# Altium footprint library TSSOP_50P_N.PcbLib: 21 footprints (part 1 of 2)
Each footprint in its own frame and in the unit in brackets; x right, y up, seen from the top. Pads: shape width x height; smd on the part's side, far side on the other; paste and mask are expansions set on the pad; w line width, h text height; cw(c..) or ccw(c..) is an arc to the next point about the centre after c.
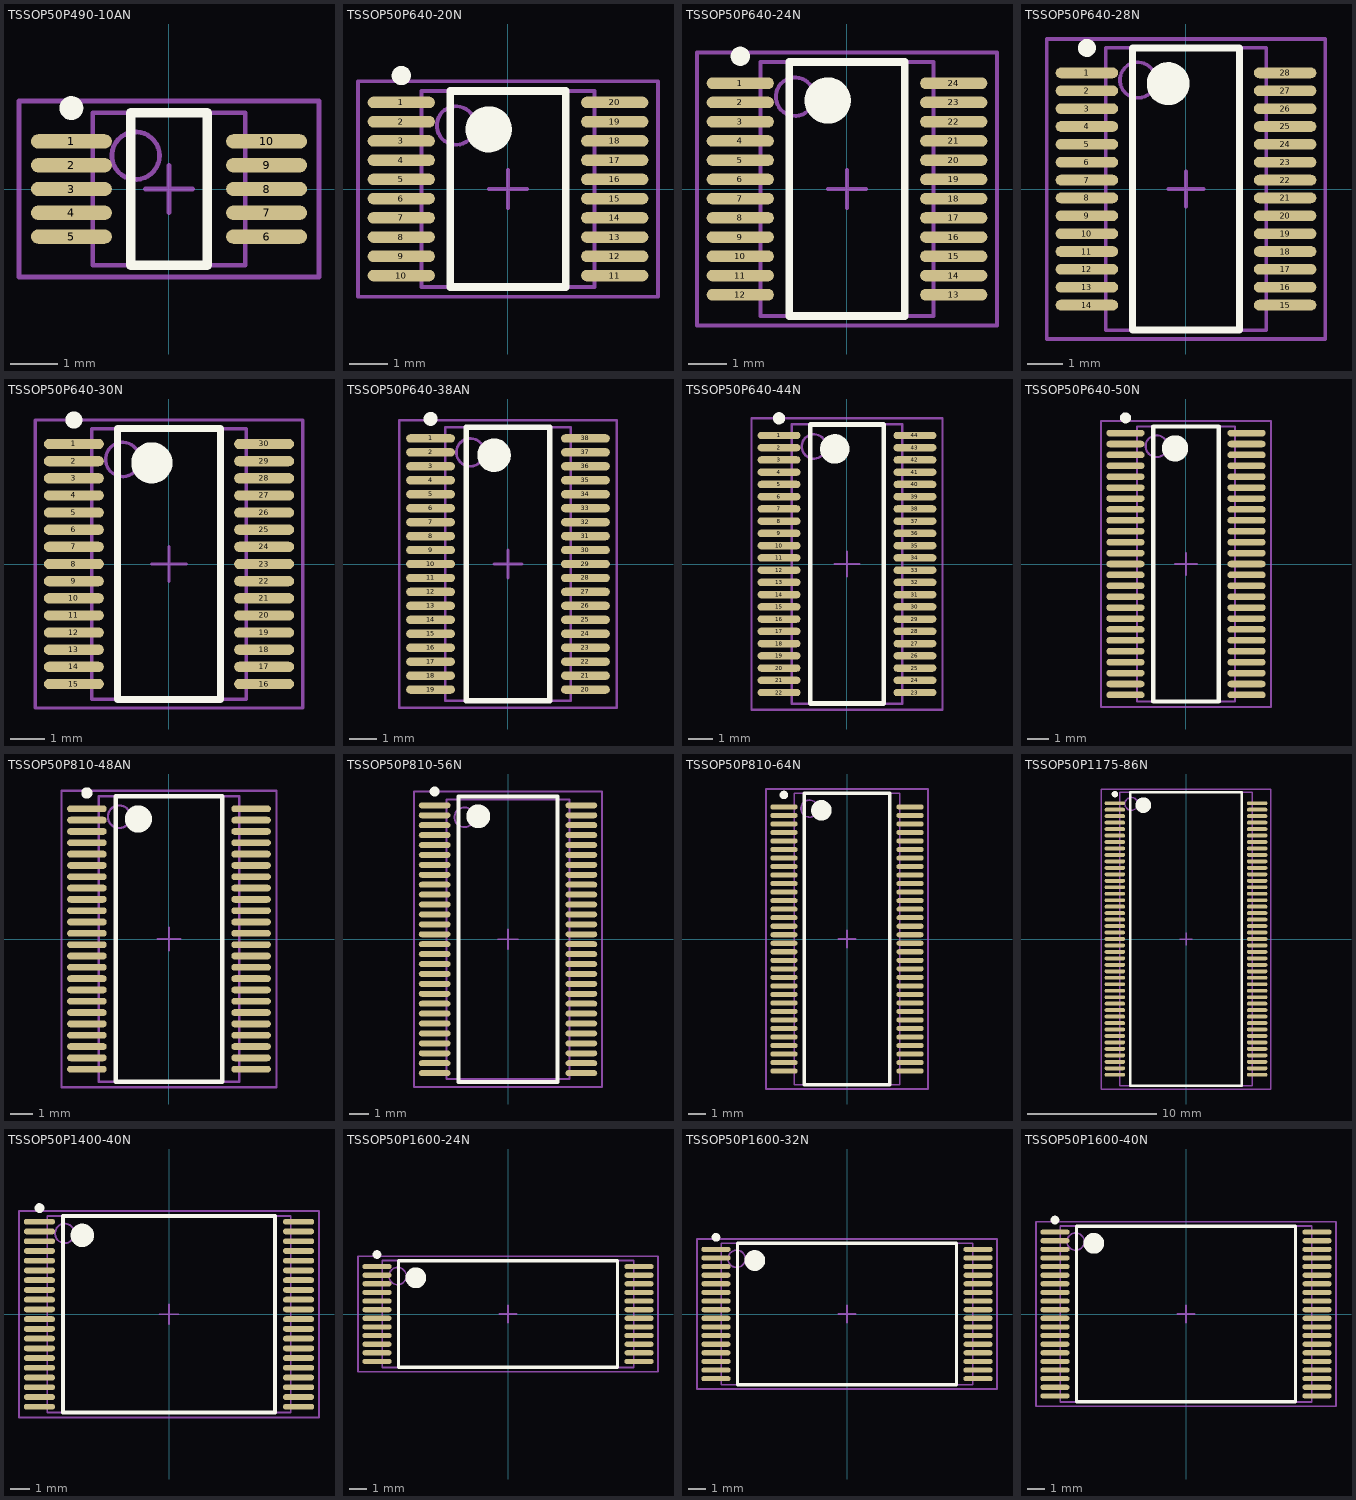
[diagram p0: the footprints below, top view; thin cyan lines are the x and y axes]

## TSSOP50P490-10AN [mm] "TSSOP, 10-Leads, Body 3x3mm, Pitch 0.5mm, IPC Medium Density"
height 1.1
pads (10):
  oval 1.7x0.3 smd: 1(-2.05,1) 2(-2.05,0.5) 3(-2.05,0) 4(-2.05,-0.5) 5(-2.05,-1) 6(2.05,-1) 7(2.05,-0.5) 8(2.05,0) 9(2.05,0.5) 10(2.05,1)
Top Overlay:
  circle w0.25: c-2.05,1.7 r0.125
  lines w0.2: -0.8,-1.6 -0.8,1.6 0.8,1.6 0.8,-1.6 -0.8,-1.6
Mechanical 13:
  circle w0.1: c-0.7,0.7 r0.5
  lines w0.1: -1.6,-1.6 -1.6,1.6 1.6,1.6 1.6,-1.6 -1.6,-1.6
Mechanical 15:
  lines w0.1: -0.5,0 0.5,0 ; 0,-0.5 0,0.5 ; -3.15,-1.85 -3.15,1.85 3.15,1.85 3.15,-1.85 -3.15,-1.85
3D body: height 1.1, standoff 0, extent -1.6,-1.6 1.6,1.6

## TSSOP50P640-20N [mm] "TSSOP, 20-Leads, Body 5x4.4mm, Pitch 0.5mm, IPC Medium Density"
height 1.2
pads (20):
  oval 1.75x0.3 smd: 1(-2.775,2.25) 2(-2.775,1.75) 3(-2.775,1.25) 4(-2.775,0.75) 5(-2.775,0.25) 6(-2.775,-0.25) 7(-2.775,-0.75) 8(-2.775,-1.25) 9(-2.775,-1.75) 10(-2.775,-2.25) 11(2.775,-2.25) 12(2.775,-1.75) 13(2.775,-1.25) 14(2.775,-0.75) 15(2.775,-0.25) 16(2.775,0.25) 17(2.775,0.75) 18(2.775,1.25) 19(2.775,1.75) 20(2.775,2.25)
Top Overlay:
  circle w0.25: c-2.775,2.95 r0.125
  circle w0.6: c-0.5,1.55 r0.3
  lines w0.2: -1.5,-2.55 -1.5,2.55 1.5,2.55 1.5,-2.55 -1.5,-2.55
Mechanical 13:
  circle w0.1: c-1.35,1.65 r0.5
  lines w0.1: -2.25,-2.55 -2.25,2.55 2.25,2.55 2.25,-2.55 -2.25,-2.55
Mechanical 15:
  lines w0.1: -0.5,0 0.5,0 ; 0,-0.5 0,0.5 ; -3.9,-2.8 -3.9,2.8 3.9,2.8 3.9,-2.8 -3.9,-2.8
3D body: height 1.2, standoff 0, extent -2.25,-2.55 2.25,2.55

## TSSOP50P640-24N [mm] "TSSOP, 24-Leads, Body 6.5x4.4mm, Pitch 0.5mm, IPC Medium Density"
height 1.2
pads (24):
  oval 1.75x0.3 smd: 1(-2.775,2.75) 2(-2.775,2.25) 3(-2.775,1.75) 4(-2.775,1.25) 5(-2.775,0.75) 6(-2.775,0.25) 7(-2.775,-0.25) 8(-2.775,-0.75) 9(-2.775,-1.25) 10(-2.775,-1.75) 11(-2.775,-2.25) 12(-2.775,-2.75) 13(2.775,-2.75) 14(2.775,-2.25) 15(2.775,-1.75) 16(2.775,-1.25) 17(2.775,-0.75) 18(2.775,-0.25) 19(2.775,0.25) 20(2.775,0.75) 21(2.775,1.25) 22(2.775,1.75) 23(2.775,2.25) 24(2.775,2.75)
Top Overlay:
  circle w0.25: c-2.775,3.45 r0.125
  circle w0.6: c-0.5,2.3 r0.3
  lines w0.2: -1.5,-3.3 -1.5,3.3 1.5,3.3 1.5,-3.3 -1.5,-3.3
Mechanical 13:
  circle w0.1: c-1.35,2.4 r0.5
  lines w0.1: -2.25,-3.3 -2.25,3.3 2.25,3.3 2.25,-3.3 -2.25,-3.3
Mechanical 15:
  lines w0.1: -0.5,0 0.5,0 ; 0,-0.5 0,0.5 ; -3.9,-3.55 -3.9,3.55 3.9,3.55 3.9,-3.55 -3.9,-3.55
3D body: height 1.2, standoff 0, extent -2.25,-3.3 2.25,3.3

## TSSOP50P640-28N [mm] "TSSOP, 28-Leads, Body 7.8x4.4mm, Pitch 0.5mm, IPC Medium Density"
height 1.2
pads (28):
  oval 1.75x0.3 smd: 1(-2.775,3.25) 2(-2.775,2.75) 3(-2.775,2.25) 4(-2.775,1.75) 5(-2.775,1.25) 6(-2.775,0.75) 7(-2.775,0.25) 8(-2.775,-0.25) 9(-2.775,-0.75) 10(-2.775,-1.25) 11(-2.775,-1.75) 12(-2.775,-2.25) 13(-2.775,-2.75) 14(-2.775,-3.25) 15(2.775,-3.25) 16(2.775,-2.75) 17(2.775,-2.25) 18(2.775,-1.75) 19(2.775,-1.25) 20(2.775,-0.75) 21(2.775,-0.25) 22(2.775,0.25) 23(2.775,0.75) 24(2.775,1.25) 25(2.775,1.75) 26(2.775,2.25) 27(2.775,2.75) 28(2.775,3.25)
Top Overlay:
  circle w0.25: c-2.775,3.95 r0.125
  circle w0.6: c-0.5,2.95 r0.3
  lines w0.2: -1.5,-3.95 -1.5,3.95 1.5,3.95 1.5,-3.95 -1.5,-3.95
Mechanical 13:
  circle w0.1: c-1.35,3.05 r0.5
  lines w0.1: -2.25,-3.95 -2.25,3.95 2.25,3.95 2.25,-3.95 -2.25,-3.95
Mechanical 15:
  lines w0.1: -0.5,0 0.5,0 ; 0,-0.5 0,0.5 ; -3.9,-4.2 -3.9,4.2 3.9,4.2 3.9,-4.2 -3.9,-4.2
3D body: height 1.2, standoff 0, extent -2.25,-3.95 2.25,3.95

## TSSOP50P640-30N [mm] "TSSOP, 30-Leads, Body 7.8x4.4mm, Pitch 0.5mm, IPC Medium Density"
height 1.2
pads (30):
  oval 1.75x0.3 smd: 1(-2.775,3.5) 2(-2.775,3) 3(-2.775,2.5) 4(-2.775,2) 5(-2.775,1.5) 6(-2.775,1) 7(-2.775,0.5) 8(-2.775,0) 9(-2.775,-0.5) 10(-2.775,-1) 11(-2.775,-1.5) 12(-2.775,-2) 13(-2.775,-2.5) 14(-2.775,-3) 15(-2.775,-3.5) 16(2.775,-3.5) 17(2.775,-3) 18(2.775,-2.5) 19(2.775,-2) 20(2.775,-1.5) 21(2.775,-1) 22(2.775,-0.5) 23(2.775,0) 24(2.775,0.5) 25(2.775,1) 26(2.775,1.5) 27(2.775,2) 28(2.775,2.5) 29(2.775,3) 30(2.775,3.5)
Top Overlay:
  circle w0.25: c-2.775,4.2 r0.125
  circle w0.6: c-0.5,2.95 r0.3
  lines w0.2: -1.5,-3.95 -1.5,3.95 1.5,3.95 1.5,-3.95 -1.5,-3.95
Mechanical 13:
  circle w0.1: c-1.35,3.05 r0.5
  lines w0.1: -2.25,-3.95 -2.25,3.95 2.25,3.95 2.25,-3.95 -2.25,-3.95
Mechanical 15:
  lines w0.1: -0.5,0 0.5,0 ; 0,-0.5 0,0.5 ; -3.9,-4.2 -3.9,4.2 3.9,4.2 3.9,-4.2 -3.9,-4.2
3D body: height 1.2, standoff 0, extent -2.25,-3.95 2.25,3.95

## TSSOP50P640-38AN [mm] "TSSOP, 38-Leads, Body 9.7x4.4mm, Pitch 0.5mm, IPC Medium Density"
height 1.2
pads (38):
  oval 1.75x0.3 smd: 1(-2.775,4.5) 2(-2.775,4) 3(-2.775,3.5) 4(-2.775,3) 5(-2.775,2.5) 6(-2.775,2) 7(-2.775,1.5) 8(-2.775,1) 9(-2.775,0.5) 10(-2.775,0) 11(-2.775,-0.5) 12(-2.775,-1) 13(-2.775,-1.5) 14(-2.775,-2) 15(-2.775,-2.5) 16(-2.775,-3) 17(-2.775,-3.5) 18(-2.775,-4) 19(-2.775,-4.5) 20(2.775,-4.5) 21(2.775,-4) 22(2.775,-3.5) 23(2.775,-3) 24(2.775,-2.5) 25(2.775,-2) 26(2.775,-1.5) 27(2.775,-1) 28(2.775,-0.5) 29(2.775,0) 30(2.775,0.5) 31(2.775,1) 32(2.775,1.5) 33(2.775,2) 34(2.775,2.5) 35(2.775,3) 36(2.775,3.5) 37(2.775,4) 38(2.775,4.5)
Top Overlay:
  circle w0.25: c-2.775,5.2 r0.125
  circle w0.6: c-0.5,3.9 r0.3
  lines w0.2: -1.5,-4.9 -1.5,4.9 1.5,4.9 1.5,-4.9 -1.5,-4.9
Mechanical 13:
  circle w0.1: c-1.35,4 r0.5
  lines w0.1: -2.25,-4.9 -2.25,4.9 2.25,4.9 2.25,-4.9 -2.25,-4.9
Mechanical 15:
  lines w0.1: -0.5,0 0.5,0 ; 0,-0.5 0,0.5 ; -3.9,-5.15 -3.9,5.15 3.9,5.15 3.9,-5.15 -3.9,-5.15
3D body: height 1.2, standoff 0, extent -2.25,-4.9 2.25,4.9

## TSSOP50P640-44N [mm] "TSSOP, 44-Leads, Body 11x4.4mm, Pitch 0.5mm, IPC Medium Density"
height 1.2
pads (44):
  oval 1.75x0.3 smd: 1(-2.775,5.25) 2(-2.775,4.75) 3(-2.775,4.25) 4(-2.775,3.75) 5(-2.775,3.25) 6(-2.775,2.75) 7(-2.775,2.25) 8(-2.775,1.75) 9(-2.775,1.25) 10(-2.775,0.75) 11(-2.775,0.25) 12(-2.775,-0.25) 13(-2.775,-0.75) 14(-2.775,-1.25) 15(-2.775,-1.75) 16(-2.775,-2.25) 17(-2.775,-2.75) 18(-2.775,-3.25) 19(-2.775,-3.75) 20(-2.775,-4.25) 21(-2.775,-4.75) 22(-2.775,-5.25) 23(2.775,-5.25) 24(2.775,-4.75) 25(2.775,-4.25) 26(2.775,-3.75) 27(2.775,-3.25) 28(2.775,-2.75) 29(2.775,-2.25) 30(2.775,-1.75) 31(2.775,-1.25) 32(2.775,-0.75) 33(2.775,-0.25) 34(2.775,0.25) 35(2.775,0.75) 36(2.775,1.25) 37(2.775,1.75) 38(2.775,2.25) 39(2.775,2.75) 40(2.775,3.25) 41(2.775,3.75) 42(2.775,4.25) 43(2.775,4.75) 44(2.775,5.25)
Top Overlay:
  circle w0.25: c-2.775,5.95 r0.125
  circle w0.6: c-0.5,4.7 r0.3
  lines w0.2: -1.5,-5.7 -1.5,5.7 1.5,5.7 1.5,-5.7 -1.5,-5.7
Mechanical 13:
  circle w0.1: c-1.35,4.8 r0.5
  lines w0.1: -2.25,-5.7 -2.25,5.7 2.25,5.7 2.25,-5.7 -2.25,-5.7
Mechanical 15:
  lines w0.1: -0.5,0 0.5,0 ; 0,-0.5 0,0.5 ; -3.9,-5.95 -3.9,5.95 3.9,5.95 3.9,-5.95 -3.9,-5.95
3D body: height 1.2, standoff 0, extent -2.25,-5.7 2.25,5.7

## TSSOP50P640-50N [mm] "TSSOP, 50-Leads, Body 12.5x4.4mm, Pitch 0.5mm, IPC Medium Density"
height 1.2
pads (50):
  oval 1.75x0.3 smd: 1(-2.775,6) 2(-2.775,5.5) 3(-2.775,5) 4(-2.775,4.5) 5(-2.775,4) 6(-2.775,3.5) 7(-2.775,3) 8(-2.775,2.5) 9(-2.775,2) 10(-2.775,1.5) 11(-2.775,1) 12(-2.775,0.5) 13(-2.775,0) 14(-2.775,-0.5) 15(-2.775,-1) 16(-2.775,-1.5) 17(-2.775,-2) 18(-2.775,-2.5) 19(-2.775,-3) 20(-2.775,-3.5) 21(-2.775,-4) 22(-2.775,-4.5) 23(-2.775,-5) 24(-2.775,-5.5) 25(-2.775,-6) 26(2.775,-6) 27(2.775,-5.5) 28(2.775,-5) 29(2.775,-4.5) 30(2.775,-4) 31(2.775,-3.5) 32(2.775,-3) 33(2.775,-2.5) 34(2.775,-2) 35(2.775,-1.5) 36(2.775,-1) 37(2.775,-0.5) 38(2.775,0) 39(2.775,0.5) 40(2.775,1) 41(2.775,1.5) 42(2.775,2) 43(2.775,2.5) 44(2.775,3) 45(2.775,3.5) 46(2.775,4) 47(2.775,4.5) 48(2.775,5) 49(2.775,5.5) 50(2.775,6)
Top Overlay:
  circle w0.25: c-2.775,6.7 r0.125
  circle w0.6: c-0.5,5.3 r0.3
  lines w0.2: -1.5,-6.3 -1.5,6.3 1.5,6.3 1.5,-6.3 -1.5,-6.3
Mechanical 13:
  circle w0.1: c-1.35,5.4 r0.5
  lines w0.1: -2.25,-6.3 -2.25,6.3 2.25,6.3 2.25,-6.3 -2.25,-6.3
Mechanical 15:
  lines w0.1: -0.5,0 0.5,0 ; 0,-0.5 0,0.5 ; -3.9,-6.55 -3.9,6.55 3.9,6.55 3.9,-6.55 -3.9,-6.55
3D body: height 1.2, standoff 0, extent -2.25,-6.3 2.25,6.3

## TSSOP50P810-48AN [mm] "TSSOP, 48-Leads, Body 12.5x6.1mm, Pitch 0.5mm, IPC Medium Density"
height 1.2
pads (48):
  oval 1.75x0.3 smd: 1(-3.625,5.75) 2(-3.625,5.25) 3(-3.625,4.75) 4(-3.625,4.25) 5(-3.625,3.75) 6(-3.625,3.25) 7(-3.625,2.75) 8(-3.625,2.25) 9(-3.625,1.75) 10(-3.625,1.25) 11(-3.625,0.75) 12(-3.625,0.25) 13(-3.625,-0.25) 14(-3.625,-0.75) 15(-3.625,-1.25) 16(-3.625,-1.75) 17(-3.625,-2.25) 18(-3.625,-2.75) 19(-3.625,-3.25) 20(-3.625,-3.75) 21(-3.625,-4.25) 22(-3.625,-4.75) 23(-3.625,-5.25) 24(-3.625,-5.75) 25(3.625,-5.75) 26(3.625,-5.25) 27(3.625,-4.75) 28(3.625,-4.25) 29(3.625,-3.75) 30(3.625,-3.25) 31(3.625,-2.75) 32(3.625,-2.25) 33(3.625,-1.75) 34(3.625,-1.25) 35(3.625,-0.75) 36(3.625,-0.25) 37(3.625,0.25) 38(3.625,0.75) 39(3.625,1.25) 40(3.625,1.75) 41(3.625,2.25) 42(3.625,2.75) 43(3.625,3.25) 44(3.625,3.75) 45(3.625,4.25) 46(3.625,4.75) 47(3.625,5.25) 48(3.625,5.75)
Top Overlay:
  circle w0.25: c-3.625,6.45 r0.125
  circle w0.6: c-1.35,5.3 r0.3
  lines w0.2: -2.35,-6.3 -2.35,6.3 2.35,6.3 2.35,-6.3 -2.35,-6.3
Mechanical 13:
  circle w0.1: c-2.2,5.4 r0.5
  lines w0.1: -3.1,-6.3 -3.1,6.3 3.1,6.3 3.1,-6.3 -3.1,-6.3
Mechanical 15:
  lines w0.1: -0.5,0 0.5,0 ; 0,-0.5 0,0.5 ; -4.75,-6.55 -4.75,6.55 4.75,6.55 4.75,-6.55 -4.75,-6.55
3D body: height 1.2, standoff 0, extent -3.1,-6.3 3.1,6.3

## TSSOP50P810-56N [mm] "TSSOP, 56-Leads, Body 14x6.1mm, Pitch 0.5mm, IPC Medium Density"
height 1.2
pads (56):
  oval 1.6x0.3 smd: 1(-3.7,6.75) 2(-3.7,6.25) 3(-3.7,5.75) 4(-3.7,5.25) 5(-3.7,4.75) 6(-3.7,4.25) 7(-3.7,3.75) 8(-3.7,3.25) 9(-3.7,2.75) 10(-3.7,2.25) 11(-3.7,1.75) 12(-3.7,1.25) 13(-3.7,0.75) 14(-3.7,0.25) 15(-3.7,-0.25) 16(-3.7,-0.75) 17(-3.7,-1.25) 18(-3.7,-1.75) 19(-3.7,-2.25) 20(-3.7,-2.75) 21(-3.7,-3.25) 22(-3.7,-3.75) 23(-3.7,-4.25) 24(-3.7,-4.75) 25(-3.7,-5.25) 26(-3.7,-5.75) 27(-3.7,-6.25) 28(-3.7,-6.75) 29(3.7,-6.75) 30(3.7,-6.25) 31(3.7,-5.75) 32(3.7,-5.25) 33(3.7,-4.75) 34(3.7,-4.25) 35(3.7,-3.75) 36(3.7,-3.25) 37(3.7,-2.75) 38(3.7,-2.25) 39(3.7,-1.75) 40(3.7,-1.25) 41(3.7,-0.75) 42(3.7,-0.25) 43(3.7,0.25) 44(3.7,0.75) 45(3.7,1.25) 46(3.7,1.75) 47(3.7,2.25) 48(3.7,2.75) 49(3.7,3.25) 50(3.7,3.75) 51(3.7,4.25) 52(3.7,4.75) 53(3.7,5.25) 54(3.7,5.75) 55(3.7,6.25) 56(3.7,6.75)
Top Overlay:
  circle w0.25: c-3.7,7.45 r0.125
  circle w0.6: c-1.5,6.2 r0.3
  lines w0.2: -2.5,-7.2 -2.5,7.2 2.5,7.2 2.5,-7.2 -2.5,-7.2
Mechanical 13:
  circle w0.1: c-2.2,6.15 r0.5
  lines w0.1: -3.1,-7.05 -3.1,7.05 3.1,7.05 3.1,-7.05 -3.1,-7.05
Mechanical 15:
  lines w0.1: -0.5,0 0.5,0 ; 0,-0.5 0,0.5 ; -4.75,-7.45 -4.75,7.45 4.75,7.45 4.75,-7.45 -4.75,-7.45
3D body: height 1.2, standoff 0, extent -3.1,-7.05 3.1,7.05

## TSSOP50P810-64N [mm] "TSSOP, 64-Leads, Body 17x6.1mm, Pitch 0.5mm, IPC Medium Density"
height 1.2
pads (64):
  oval 1.6x0.3 smd: 1(-3.7,7.75) 2(-3.7,7.25) 3(-3.7,6.75) 4(-3.7,6.25) 5(-3.7,5.75) 6(-3.7,5.25) 7(-3.7,4.75) 8(-3.7,4.25) 9(-3.7,3.75) 10(-3.7,3.25) 11(-3.7,2.75) 12(-3.7,2.25) 13(-3.7,1.75) 14(-3.7,1.25) 15(-3.7,0.75) 16(-3.7,0.25) 17(-3.7,-0.25) 18(-3.7,-0.75) 19(-3.7,-1.25) 20(-3.7,-1.75) 21(-3.7,-2.25) 22(-3.7,-2.75) 23(-3.7,-3.25) 24(-3.7,-3.75) 25(-3.7,-4.25) 26(-3.7,-4.75) 27(-3.7,-5.25) 28(-3.7,-5.75) 29(-3.7,-6.25) 30(-3.7,-6.75) 31(-3.7,-7.25) 32(-3.7,-7.75) 33(3.7,-7.75) 34(3.7,-7.25) 35(3.7,-6.75) 36(3.7,-6.25) 37(3.7,-5.75) 38(3.7,-5.25) 39(3.7,-4.75) 40(3.7,-4.25) 41(3.7,-3.75) 42(3.7,-3.25) 43(3.7,-2.75) 44(3.7,-2.25) 45(3.7,-1.75) 46(3.7,-1.25) 47(3.7,-0.75) 48(3.7,-0.25) 49(3.7,0.25) 50(3.7,0.75) 51(3.7,1.25) 52(3.7,1.75) 53(3.7,2.25) 54(3.7,2.75) 55(3.7,3.25) 56(3.7,3.75) 57(3.7,4.25) 58(3.7,4.75) 59(3.7,5.25) 60(3.7,5.75) 61(3.7,6.25) 62(3.7,6.75) 63(3.7,7.25) 64(3.7,7.75)
Top Overlay:
  circle w0.25: c-3.7,8.45 r0.125
  circle w0.6: c-1.5,7.55 r0.3
  lines w0.2: -2.5,-8.55 -2.5,8.55 2.5,8.55 2.5,-8.55 -2.5,-8.55
Mechanical 13:
  circle w0.1: c-2.2,7.65 r0.5
  lines w0.1: -3.1,-8.55 -3.1,8.55 3.1,8.55 3.1,-8.55 -3.1,-8.55
Mechanical 15:
  lines w0.1: -0.5,0 0.5,0 ; 0,-0.5 0,0.5 ; -4.75,-8.8 -4.75,8.8 4.75,8.8 4.75,-8.8 -4.75,-8.8
3D body: height 1.2, standoff 0, extent -3.1,-8.55 3.1,8.55

## TSSOP50P1175-86N [mm] "TSSOP, 86-Leads, Body 22.2x10.2mm, Pitch 0.5mm, IPC Medium Density"
height 1.2
pads (86):
  oval 1.6x0.3 smd: 1(-5.5,10.5) 2(-5.5,10) 3(-5.5,9.5) 4(-5.5,9) 5(-5.5,8.5) 6(-5.5,8) 7(-5.5,7.5) 8(-5.5,7) 9(-5.5,6.5) 10(-5.5,6) 11(-5.5,5.5) 12(-5.5,5) 13(-5.5,4.5) 14(-5.5,4) 15(-5.5,3.5) 16(-5.5,3) 17(-5.5,2.5) 18(-5.5,2) 19(-5.5,1.5) 20(-5.5,1) 21(-5.5,0.5) 22(-5.5,0) 23(-5.5,-0.5) 24(-5.5,-1) 25(-5.5,-1.5) 26(-5.5,-2) 27(-5.5,-2.5) 28(-5.5,-3) 29(-5.5,-3.5) 30(-5.5,-4) 31(-5.5,-4.5) 32(-5.5,-5) 33(-5.5,-5.5) 34(-5.5,-6) 35(-5.5,-6.5) 36(-5.5,-7) 37(-5.5,-7.5) 38(-5.5,-8) 39(-5.5,-8.5) 40(-5.5,-9) 41(-5.5,-9.5) 42(-5.5,-10) 43(-5.5,-10.5) 44(5.5,-10.5) 45(5.5,-10) 46(5.5,-9.5) 47(5.5,-9) 48(5.5,-8.5) 49(5.5,-8) 50(5.5,-7.5) 51(5.5,-7) 52(5.5,-6.5) 53(5.5,-6) 54(5.5,-5.5) 55(5.5,-5) 56(5.5,-4.5) 57(5.5,-4) 58(5.5,-3.5) 59(5.5,-3) 60(5.5,-2.5) 61(5.5,-2) 62(5.5,-1.5) 63(5.5,-1) 64(5.5,-0.5) 65(5.5,0) 66(5.5,0.5) 67(5.5,1) 68(5.5,1.5) 69(5.5,2) 70(5.5,2.5) 71(5.5,3) 72(5.5,3.5) 73(5.5,4) 74(5.5,4.5) 75(5.5,5) 76(5.5,5.5) 77(5.5,6) 78(5.5,6.5) 79(5.5,7) 80(5.5,7.5) 81(5.5,8) 82(5.5,8.5) 83(5.5,9) 84(5.5,9.5) 85(5.5,10) 86(5.5,10.5)
Top Overlay:
  circle w0.25: c-5.5,11.2 r0.125
  circle w0.6: c-3.3,10.35 r0.3
  lines w0.2: -4.3,-11.35 -4.3,11.35 4.3,11.35 4.3,-11.35 -4.3,-11.35
Mechanical 13:
  circle w0.1: c-4.225,10.45 r0.5
  lines w0.1: -5.125,-11.35 -5.125,11.35 5.125,11.35 5.125,-11.35 -5.125,-11.35
Mechanical 15:
  lines w0.1: -0.5,0 0.5,0 ; 0,-0.5 0,0.5 ; -6.55,-11.6 -6.55,11.6 6.55,11.6 6.55,-11.6 -6.55,-11.6
3D body: height 1.2, standoff 0, extent -5.125,-11.35 5.125,11.35

## TSSOP50P1400-40N [mm] "TSSOP, 40-Leads, Body 10x14.4mm, Pitch 0.5mm, IPC Medium Density"
height 1.2
pads (40):
  oval 1.6x0.3 smd: 1(-6.65,4.75) 2(-6.65,4.25) 3(-6.65,3.75) 4(-6.65,3.25) 5(-6.65,2.75) 6(-6.65,2.25) 7(-6.65,1.75) 8(-6.65,1.25) 9(-6.65,0.75) 10(-6.65,0.25) 11(-6.65,-0.25) 12(-6.65,-0.75) 13(-6.65,-1.25) 14(-6.65,-1.75) 15(-6.65,-2.25) 16(-6.65,-2.75) 17(-6.65,-3.25) 18(-6.65,-3.75) 19(-6.65,-4.25) 20(-6.65,-4.75) 21(6.65,-4.75) 22(6.65,-4.25) 23(6.65,-3.75) 24(6.65,-3.25) 25(6.65,-2.75) 26(6.65,-2.25) 27(6.65,-1.75) 28(6.65,-1.25) 29(6.65,-0.75) 30(6.65,-0.25) 31(6.65,0.25) 32(6.65,0.75) 33(6.65,1.25) 34(6.65,1.75) 35(6.65,2.25) 36(6.65,2.75) 37(6.65,3.25) 38(6.65,3.75) 39(6.65,4.25) 40(6.65,4.75)
Top Overlay:
  circle w0.6: c-4.45,4.05 r0.3
  circle w0.25: c-6.65,5.45 r0.125
  lines w0.2: -5.45,-5.05 5.45,-5.05 5.45,5.05 -5.45,5.05 -5.45,-5.05
Mechanical 13:
  circle w0.1: c-5.35,4.15 r0.5
  lines w0.1: -6.25,-5.05 6.25,-5.05 6.25,5.05 -6.25,5.05 -6.25,-5.05
Mechanical 15:
  lines w0.1: -0.5,0 0.5,0 ; 0,-0.5 0,0.5 ; -7.7,-5.3 7.7,-5.3 7.7,5.3 -7.7,5.3 -7.7,-5.3
3D body: height 1.2, standoff 0, extent -6.25,-5.05 6.25,5.05

## TSSOP50P1600-24N [mm] "TSSOP, 24-Leads, Body 6x14.4mm, Pitch 0.5mm, IPC Medium Density"
height 1.27
pads (24):
  oval 1.7x0.3 smd: 1(-7.6,2.75) 2(-7.6,2.25) 3(-7.6,1.75) 4(-7.6,1.25) 5(-7.6,0.75) 6(-7.6,0.25) 7(-7.6,-0.25) 8(-7.6,-0.75) 9(-7.6,-1.25) 10(-7.6,-1.75) 11(-7.6,-2.25) 12(-7.6,-2.75) 13(7.6,-2.75) 14(7.6,-2.25) 15(7.6,-1.75) 16(7.6,-1.25) 17(7.6,-0.75) 18(7.6,-0.25) 19(7.6,0.25) 20(7.6,0.75) 21(7.6,1.25) 22(7.6,1.75) 23(7.6,2.25) 24(7.6,2.75)
Top Overlay:
  circle w0.25: c-7.6,3.45 r0.125
  circle w0.6: c-5.35,2.1 r0.3
  lines w0.2: -6.35,-3.1 -6.35,3.1 6.35,3.1 6.35,-3.1 -6.35,-3.1
Mechanical 13:
  circle w0.1: c-6.4,2.2 r0.5
  lines w0.1: -7.3,-3.1 -7.3,3.1 7.3,3.1 7.3,-3.1 -7.3,-3.1
Mechanical 15:
  lines w0.1: -0.5,0 0.5,0 ; 0,-0.5 0,0.5 ; -8.7,-3.35 -8.7,3.35 8.7,3.35 8.7,-3.35 -8.7,-3.35
3D body: height 1.27, standoff 0, extent -7.3,-3.1 7.3,3.1

## TSSOP50P1600-32N [mm] "TSSOP, 32-Leads, Body 8x14.4mm, Pitch 0.5mm, IPC Medium Density"
height 1.27
pads (32):
  oval 1.7x0.3 smd: 1(-7.6,3.75) 2(-7.6,3.25) 3(-7.6,2.75) 4(-7.6,2.25) 5(-7.6,1.75) 6(-7.6,1.25) 7(-7.6,0.75) 8(-7.6,0.25) 9(-7.6,-0.25) 10(-7.6,-0.75) 11(-7.6,-1.25) 12(-7.6,-1.75) 13(-7.6,-2.25) 14(-7.6,-2.75) 15(-7.6,-3.25) 16(-7.6,-3.75) 17(7.6,-3.75) 18(7.6,-3.25) 19(7.6,-2.75) 20(7.6,-2.25) 21(7.6,-1.75) 22(7.6,-1.25) 23(7.6,-0.75) 24(7.6,-0.25) 25(7.6,0.25) 26(7.6,0.75) 27(7.6,1.25) 28(7.6,1.75) 29(7.6,2.25) 30(7.6,2.75) 31(7.6,3.25) 32(7.6,3.75)
Top Overlay:
  circle w0.25: c-7.6,4.45 r0.125
  circle w0.6: c-5.35,3.1 r0.3
  lines w0.2: -6.35,-4.1 -6.35,4.1 6.35,4.1 6.35,-4.1 -6.35,-4.1
Mechanical 13:
  circle w0.1: c-6.4,3.2 r0.5
  lines w0.1: -7.3,-4.1 -7.3,4.1 7.3,4.1 7.3,-4.1 -7.3,-4.1
Mechanical 15:
  lines w0.1: -0.5,0 0.5,0 ; 0,-0.5 0,0.5 ; -8.7,-4.35 -8.7,4.35 8.7,4.35 8.7,-4.35 -8.7,-4.35
3D body: height 1.27, standoff 0, extent -7.3,-4.1 7.3,4.1

## TSSOP50P1600-40N [mm] "TSSOP, 40-Leads, Body 10x14.4mm, Pitch 0.5mm, IPC Medium Density"
height 1.27
pads (40):
  oval 1.7x0.3 smd: 1(-7.6,4.75) 2(-7.6,4.25) 3(-7.6,3.75) 4(-7.6,3.25) 5(-7.6,2.75) 6(-7.6,2.25) 7(-7.6,1.75) 8(-7.6,1.25) 9(-7.6,0.75) 10(-7.6,0.25) 11(-7.6,-0.25) 12(-7.6,-0.75) 13(-7.6,-1.25) 14(-7.6,-1.75) 15(-7.6,-2.25) 16(-7.6,-2.75) 17(-7.6,-3.25) 18(-7.6,-3.75) 19(-7.6,-4.25) 20(-7.6,-4.75) 21(7.6,-4.75) 22(7.6,-4.25) 23(7.6,-3.75) 24(7.6,-3.25) 25(7.6,-2.75) 26(7.6,-2.25) 27(7.6,-1.75) 28(7.6,-1.25) 29(7.6,-0.75) 30(7.6,-0.25) 31(7.6,0.25) 32(7.6,0.75) 33(7.6,1.25) 34(7.6,1.75) 35(7.6,2.25) 36(7.6,2.75) 37(7.6,3.25) 38(7.6,3.75) 39(7.6,4.25) 40(7.6,4.75)
Top Overlay:
  circle w0.25: c-7.6,5.45 r0.125
  circle w0.6: c-5.35,4.1 r0.3
  lines w0.2: -6.35,-5.1 -6.35,5.1 6.35,5.1 6.35,-5.1 -6.35,-5.1
Mechanical 13:
  circle w0.1: c-6.4,4.2 r0.5
  lines w0.1: -7.3,-5.1 -7.3,5.1 7.3,5.1 7.3,-5.1 -7.3,-5.1
Mechanical 15:
  lines w0.1: -0.5,0 0.5,0 ; 0,-0.5 0,0.5 ; -8.7,-5.35 -8.7,5.35 8.7,5.35 8.7,-5.35 -8.7,-5.35
3D body: height 1.27, standoff 0, extent -7.3,-5.1 7.3,5.1